# Altium footprint library HV_BMS_PCB_LIB.PcbLib: 13 footprints
Each footprint in its own frame and in the unit in brackets; x right, y up, seen from the top. Pads: shape width x height; smd on the part's side, far side on the other; paste and mask are expansions set on the pad; w line width, h text height; cw(c..) or ccw(c..) is an arc to the next point about the centre after c.
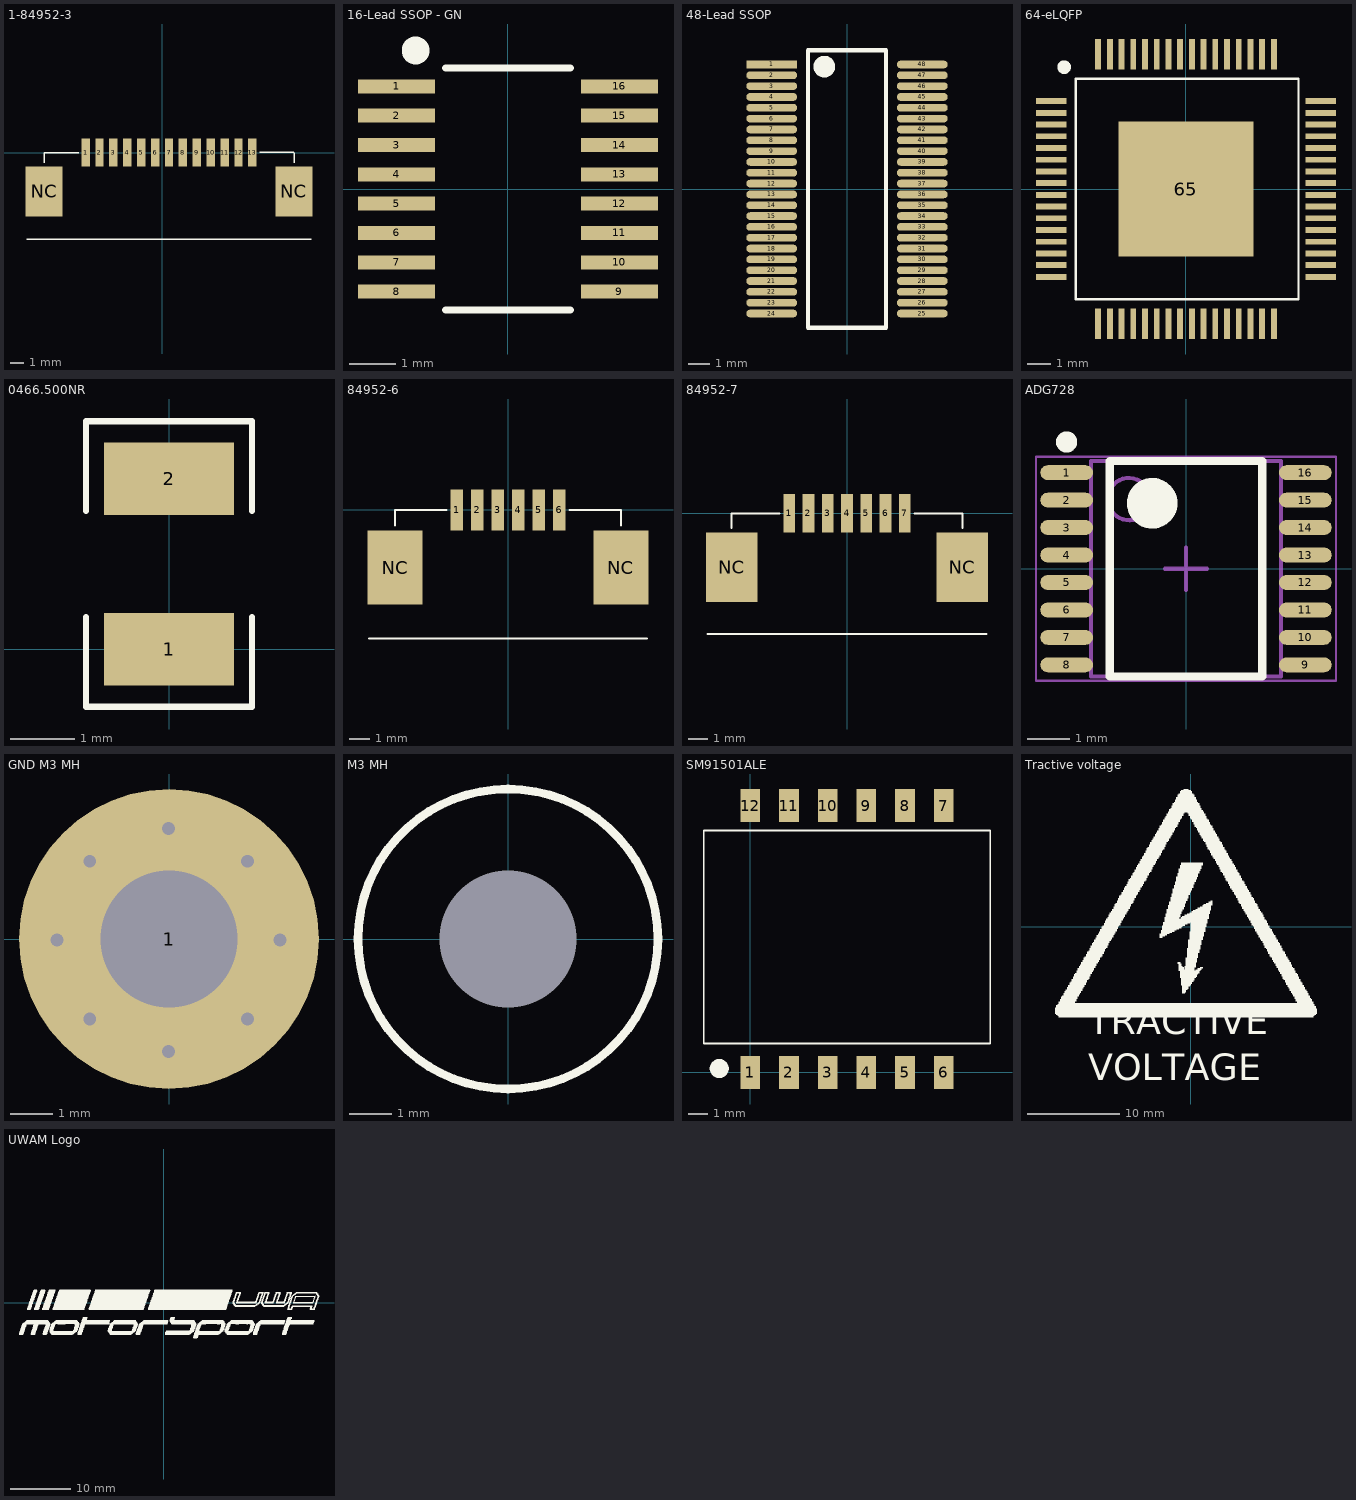
[diagram p0: the footprints below, top view; thin cyan lines are the x and y axes]

## 1-84952-3 [mm]
pads (15):
  rect 0.61x2 smd mask+0: 1(-5.5,0) 2(-4.5,0) 3(-3.5,0) 4(-2.5,0) 5(-1.5,0) 6(-0.5,0) 7(0.5,0) 8(1.5,0) 9(2.5,0) 10(3.5,0) 11(4.5,0) 12(5.5,0) 13(6.5,0)
  rect 2.68x3.6 smd mask+0: NC(-8.49,-2.8) NC(9.49,-2.8)
Top Layer:
  lines w0.1: -8.24,-2.51 -8.23,-2.5
Top Overlay:
  lines w0.1: -9.75,-6.25 10.75,-6.25 ; -8.49,-0.75 -8.49,-0.01 ; -8.48,0 -6,0 ; 7.01,0.01 9.49,0.01 ; 9.5,-0.74 9.5,0
3D body "c-1-84952-3-a-3d.stp": height 2.57, standoff 0.01, extent -9.945,-6.43 10.995,0.11

## 16-Lead SSOP - GN [mil]
pads (16):
  rect 65.75x12 smd paste+0: 1(-95.03,87.5) 2(-95.03,62.5) 3(-95.03,37.5) 4(-95.03,12.5) 5(-95.03,-12.5) 6(-95.03,-37.5) 7(-95.03,-62.5) 8(-95.03,-87.5) 9(95.03,-87.5) 10(95.03,-62.5) 11(95.03,-37.5) 12(95.03,-12.5) 13(95.03,12.5) 14(95.03,37.5) 15(95.03,62.5) 16(95.03,87.5)
Top Overlay:
  circle w19.68: c-78.74,118.11 r1.97
  lines w6: -53.14,-103 53.14,-103 ; -53.14,103 53.14,103
3D body "User Library-SSOP16.step": height 43.28, standoff -0.03, extent -118,-98.98 118,97.02

## 48-Lead SSOP [mm]
pads (48):
  rect 2.353x0.355 smd paste+0: 1(-3.475,5.75)
  rrect100% 2.353x0.355 smd paste+0: 2(-3.475,5.25) 3(-3.475,4.75) 4(-3.475,4.25) 5(-3.475,3.75) 6(-3.475,3.25) 7(-3.475,2.75) 8(-3.475,2.25) 9(-3.475,1.75) 10(-3.475,1.25) 11(-3.475,0.75) 12(-3.475,0.25) 13(-3.475,-0.25) 14(-3.475,-0.75) 15(-3.475,-1.25) 16(-3.475,-1.75) 17(-3.475,-2.25) 18(-3.475,-2.75) 19(-3.475,-3.25) 20(-3.475,-3.75) 21(-3.475,-4.25) 22(-3.475,-4.75) 23(-3.475,-5.25) 24(-3.475,-5.75) 25(3.475,-5.75) 26(3.475,-5.25) 27(3.475,-4.75) 28(3.475,-4.25) 29(3.475,-3.75) 30(3.475,-3.25) 31(3.475,-2.75) 32(3.475,-2.25) 33(3.475,-1.75) 34(3.475,-1.25) 35(3.475,-0.75) 36(3.475,-0.25) 37(3.475,0.25) 38(3.475,0.75) 39(3.475,1.25) 40(3.475,1.75) 41(3.475,2.25) 42(3.475,2.75) 43(3.475,3.25) 44(3.475,3.75) 45(3.475,4.25) 46(3.475,4.75) 47(3.475,5.25) 48(3.475,5.75)
Top Overlay:
  circle w0.5: c-1.049,5.65 r0.25
  lines w0.2: -1.799,-6.4 -1.799,6.4 1.799,6.4 1.799,-6.4 -1.799,-6.4
3D body "IC_Analog_Devices_LTC6811HG-1#PBF_eec.STEP": height 0.25, standoff 0, extent -5.152,-6.9 5.152,6.9

## 64-eLQFP [mm]
pads (65):
  rect 1.3x0.25 smd: 1(-5.75,3.75) 2(-5.75,3.25) 3(-5.75,2.75) 4(-5.75,2.25) 5(-5.75,1.75) 6(-5.75,1.25) 7(-5.75,0.75) 8(-5.75,0.25) 9(-5.75,-0.25) 10(-5.75,-0.75) 11(-5.75,-1.25) 12(-5.75,-1.75) 13(-5.75,-2.25) 14(-5.75,-2.75) 15(-5.75,-3.25) 16(-5.75,-3.75) 33(5.75,-3.75) 34(5.75,-3.25) 35(5.75,-2.75) 36(5.75,-2.25) 37(5.75,-1.75) 38(5.75,-1.25) 39(5.75,-0.75) 40(5.75,-0.25) 41(5.75,0.25) 42(5.75,0.75) 43(5.75,1.25) 44(5.75,1.75) 45(5.75,2.25) 46(5.75,2.75) 47(5.75,3.25) 48(5.75,3.75)
  rect 0.25x1.3 smd: 17(-3.75,-5.75) 18(-3.25,-5.75) 19(-2.75,-5.75) 20(-2.25,-5.75) 21(-1.75,-5.75) 22(-1.25,-5.75) 23(-0.75,-5.75) 24(-0.25,-5.75) 25(0.25,-5.75) 26(0.75,-5.75) 27(1.25,-5.75) 28(1.75,-5.75) 29(2.25,-5.75) 30(2.75,-5.75) 31(3.25,-5.75) 32(3.75,-5.75) 49(3.75,5.75) 50(3.25,5.75) 51(2.75,5.75) 52(2.25,5.75) 53(1.75,5.75) 54(1.25,5.75) 55(0.75,5.75) 56(0.25,5.75) 57(-0.25,5.75) 58(-0.75,5.75) 59(-1.25,5.75) 60(-1.75,5.75) 61(-2.25,5.75) 62(-2.75,5.75) 63(-3.25,5.75) 64(-3.75,5.75)
  rect 5.74x5.74 smd: 65(0,0)
Top Overlay:
  circle w0.5: c-5.2,5.2 r0.04
  lines w0.1: -4.7,-4.7 4.8,-4.7 4.8,4.7 -4.7,4.7 -4.7,-4.7
3D body "User Library-LQFP64_Grid_0_5.STEP": height 1.46, standoff -0.14, extent -6,-6 6,6

## 0466.500NR [mm] "Surface Mount Fuses 63V .5A"
pads (2):
  rect 2.03x1.14 smd: 1(0,0) 2(0,2.67)
Top Overlay:
  lines w0.1: -1.3,0.5 -1.3,-0.9 1.3,-0.9 1.3,0.5 ; -1.3,2.17 -1.3,3.57 1.3,3.57 1.3,2.17
3D body "0466.500NR.stp": height 0.58, standoff 0, extent -0.76,-0.29 0.76,2.89

## 84952-6 [mm] "FPC Connector"
pads (8):
  rect 0.61x2 smd mask+0: 1(-2.5,0) 2(-1.5,0) 3(-0.5,0) 4(0.5,0) 5(1.5,0) 6(2.5,0)
  rect 2.68x3.6 smd mask+0: NC(-5.49,-2.8) NC(5.49,-2.8)
Top Layer:
  lines w0.1: -5.24,-2.51 -5.23,-2.5
Top Overlay:
  lines w0.1: -6.75,-6.25 6.75,-6.25 ; -5.49,-0.75 -5.49,-0.01 ; -5.48,0 -3,0 ; 3,0 5.48,0 ; 5.49,-0.75 5.49,-0.01
3D body "c-84952-6-a-3d.stp": height 2.57, standoff 0.01, extent -6.965,-6.53 6.965,0.01

## 84952-7 [mm] "FPC Connector"
pads (9):
  rect 0.61x2 smd mask+0: 1(-3,0) 2(-2,0) 3(-1,0) 4(0,0) 5(1,0) 6(2,0) 7(3,0)
  rect 2.68x3.6 smd mask+0: NC(-5.99,-2.8) NC(5.99,-2.8)
Top Layer:
  lines w0.1: -5.74,-2.51 -5.73,-2.5
Top Overlay:
  lines w0.1: -7.25,-6.25 7.25,-6.25 ; -5.99,-0.75 -5.99,-0.01 ; -5.98,0 -3.5,0 ; 3.5,0 5.98,0 ; 5.99,-0.75 5.99,-0.01
3D body "c-84952-7-a-3d.stp": height 2.57, standoff 0.01, extent -7.46,-6.53 7.46,0.01

## ADG728 [mm]
pads (16):
  oval 1.25x0.35 smd: 1(-2.825,2.275) 2(-2.825,1.625) 3(-2.825,0.975) 4(-2.825,0.325) 5(-2.825,-0.325) 6(-2.825,-0.975) 7(-2.825,-1.625) 8(-2.825,-2.275) 9(2.825,-2.275) 10(2.825,-1.625) 11(2.825,-0.975) 12(2.825,-0.325) 13(2.825,0.325) 14(2.825,0.975) 15(2.825,1.625) 16(2.825,2.275)
Top Overlay:
  circle w0.25: c-2.825,3 r0.125
  circle w0.6: c-0.8,1.55 r0.3
  lines w0.2: -1.8,-2.55 -1.8,2.55 1.8,2.55 1.8,-2.55 -1.8,-2.55
Mechanical 13:
  circle w0.1: c-1.35,1.65 r0.5
  lines w0.1: -2.25,-2.55 -2.25,2.55 2.25,2.55 2.25,-2.55 -2.25,-2.55
Mechanical 15:
  lines w0.05: -3.55,-2.65 -3.55,2.65 3.55,2.65 3.55,-2.65 -3.55,-2.65
  lines w0.1: -0.5,0 0.5,0 ; 0,-0.5 0,0.5
3D body: height 1.2, standoff 0.05, extent -2.25,-2.55 2.25,2.55

## GND M3 MH [mm] "GND M3 MH"
pads (1):
  round 7 hole 3.2 mask+0: 1(0,0)
via 2.589,-0.024 diameter 0.6 hole 0.3
via 1.828,1.814 diameter 0.6 hole 0.3
via -0.011,2.576 diameter 0.6 hole 0.3
via -1.849,1.814 diameter 0.6 hole 0.3
via -2.611,-0.024 diameter 0.6 hole 0.3
via -1.849,-1.863 diameter 0.6 hole 0.3
via -0.011,-2.624 diameter 0.6 hole 0.3
via 1.828,-1.863 diameter 0.6 hole 0.3

## M3 MH [mm] "M3 MH"
pads (1):
  round 0 hole 3.2 unplated mask+0: ""(0,0)
Top Overlay:
  circle w0.2: c0,0 r3.5

## SM91501ALE [mm] "2 Channel pulse transformer with choke"
pads (13):
  rect 1.02x1.715 smd: 1(0,0) 2(2,0) 3(4,0) 4(6,0) 5(8,0) 6(10,0) 7(10,13.785) 8(8,13.785) 9(6,13.785) 10(4,13.785) 11(2,13.785) 12(0,13.785)
  round 1 on Top Overlay mask+0: ""(-1.6,0.2)
Top Overlay:
  lines w0.1: -2.4,1.5 12.4,1.5 12.4,12.5 -2.4,12.5 -2.4,1.5
3D body "SM91501ALE.STEP": height 5, standoff 0, extent -2.405,-0.565 12.405,14.165

## Tractive voltage [mm]
Top Overlay:
  drawing of 2 lines, arcs and shapes, not listed
  text "TRACTIVE / VOLTAGE" at -11.15,-17.675 h5

## UWAM Logo [mm] "UWAM Logo"
Top Overlay:
  drawing of 19 lines, arcs and shapes, not listed